# EAGLE library part LOKI_TOP_PLANK (library loki)
Top plank template for Loki. For planks that cannot have others stacked on them.
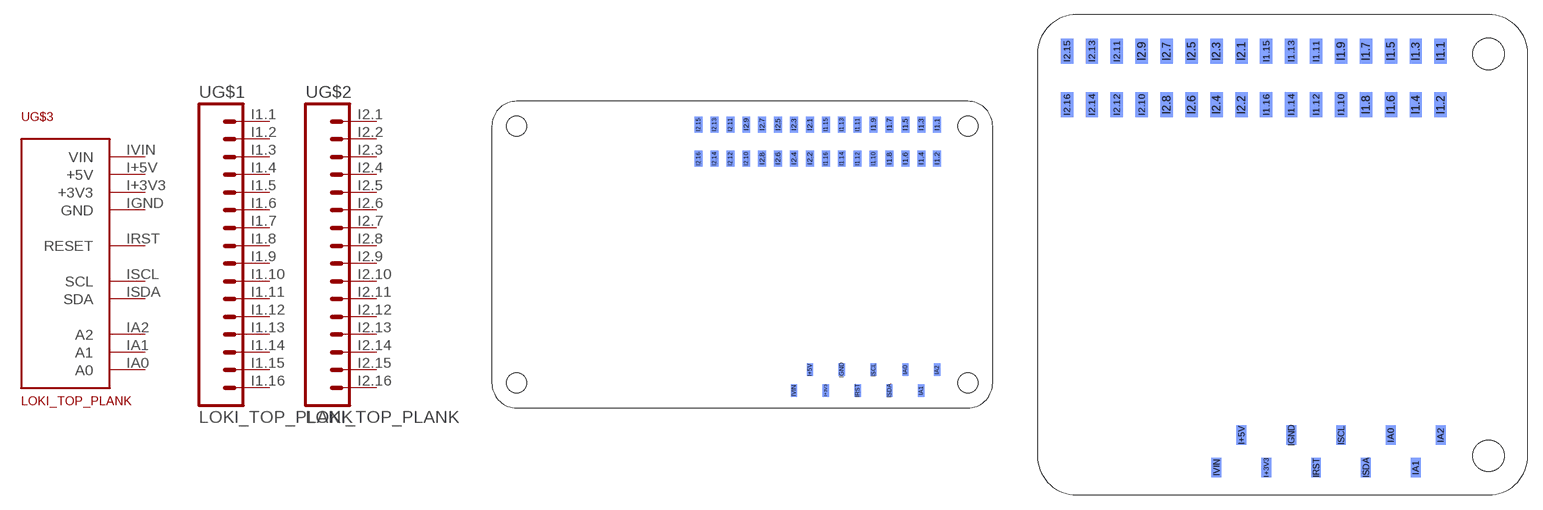
[diagram p1: symbol with the pads of TOP_PLANK_LONG; footprints TOP_PLANK_LONG, TOP_PLANK_SHORT]

Designator prefix -; gates G$1=INBANK G$2=INBANK G$3=TOP_POWERHEADER

## LOKI_TOP_PLANKLONG  [TOP_PLANK_LONG]
I1.1  G$1:1  pas
I1.2  G$1:2  pas
I1.3  G$1:3  pas
I1.4  G$1:4  pas
I1.5  G$1:5  pas
I1.6  G$1:6  pas
I1.7  G$1:7  pas
I1.8  G$1:8  pas
I1.9  G$1:9  pas
I1.10  G$1:10  pas
I1.11  G$1:11  pas
I1.12  G$1:12  pas
I1.13  G$1:13  pas
I1.14  G$1:14  pas
I1.15  G$1:15  pas
I1.16  G$1:16  pas
I2.1  G$2:1  pas
I2.2  G$2:2  pas
I2.3  G$2:3  pas
I2.4  G$2:4  pas
I2.5  G$2:5  pas
I2.6  G$2:6  pas
I2.7  G$2:7  pas
I2.8  G$2:8  pas
I2.9  G$2:9  pas
I2.10  G$2:10  pas
I2.11  G$2:11  pas
I2.12  G$2:12  pas
I2.13  G$2:13  pas
I2.14  G$2:14  pas
I2.15  G$2:15  pas
I2.16  G$2:16  pas
I+3V3  G$3:+3V3  pwr
I+5V  G$3:+5V  pwr
IA0  G$3:A0  out
IA1  G$3:A1  out
IA2  G$3:A2  out
IGND  G$3:GND  pwr
IRST  G$3:RESET  in
ISCL  G$3:SCL
ISDA  G$3:SDA
IVIN  G$3:VIN  pwr

## LOKI_TOP_PLANKSHORT  [TOP_PLANK_SHORT]
Pads as for TOP_PLANK_LONG

## LOKI_TOP_PLANKSHORT_NOHOLES  [TOP_PLANK_SHORT_NOHOLES]
Pads as for TOP_PLANK_LONG

## Footprint TOP_PLANK_LONG (pad centres in mm)
smd 1.27 x 2.54 bottom: I1.1 71.12,45.275; I1.2 71.12,39.815; I1.3 68.58,45.275; I1.4 68.58,39.815; I1.5 66.04,45.275; I1.6 66.04,39.815; I1.7 63.5,45.275; I1.8 63.5,39.815; I1.9 60.96,45.275; I1.10 60.96,39.815; I1.11 58.42,45.275; I1.12 58.42,39.815; I1.13 55.88,45.275; I1.14 55.88,39.815; I1.15 53.34,45.275; I1.16 53.34,39.815; I2.1 50.8,45.275; I2.2 50.8,39.815; I2.3 48.26,45.275; I2.4 48.26,39.815; I2.5 45.72,45.275; I2.6 45.72,39.815; I2.7 43.18,45.275; I2.8 43.18,39.815; I2.9 40.64,45.275; I2.10 40.64,39.815; I2.11 38.1,45.275; I2.12 38.1,39.815; I2.13 35.56,45.275; I2.14 35.56,39.815; I2.15 33.02,45.275; I2.16 33.02,39.815
smd 1 x 2 bottom: I+3V3 53.34,2.795; I+5V 50.8,6.095; IA0 66.04,6.095; IA1 68.58,2.795; IA2 71.12,6.095; IGND 55.88,6.095; IRST 58.42,2.795; ISCL 60.96,6.095; ISDA 63.5,2.795; IVIN 48.26,2.795
hole 3.2 at 4,4
hole 3.2 at 76,4
hole 3.2 at 76,45
hole 3.2 at 4,45

## Footprint TOP_PLANK_SHORT (pad centres in mm)
smd 1.27 x 2.54 bottom: I1.1 41.12,45.275; I1.2 41.12,39.815; I1.3 38.58,45.275; I1.4 38.58,39.815; I1.5 36.04,45.275; I1.6 36.04,39.815; I1.7 33.5,45.275; I1.8 33.5,39.815; I1.9 30.96,45.275; I1.10 30.96,39.815; I1.11 28.42,45.275; I1.12 28.42,39.815; I1.13 25.88,45.275; I1.14 25.88,39.815; I1.15 23.34,45.275; I1.16 23.34,39.815; I2.1 20.8,45.275; I2.2 20.8,39.815; I2.3 18.26,45.275; I2.4 18.26,39.815; I2.5 15.72,45.275; I2.6 15.72,39.815; I2.7 13.18,45.275; I2.8 13.18,39.815; I2.9 10.64,45.275; I2.10 10.64,39.815; I2.11 8.1,45.275; I2.12 8.1,39.815; I2.13 5.56,45.275; I2.14 5.56,39.815; I2.15 3.02,45.275; I2.16 3.02,39.815
smd 1 x 2 bottom: I+3V3 23.34,2.795; I+5V 20.8,6.095; IA0 36.04,6.095; IA1 38.58,2.795; IA2 41.12,6.095; IGND 25.88,6.095; IRST 28.42,2.795; ISCL 30.96,6.095; ISDA 33.5,2.795; IVIN 18.26,2.795
hole 3.2 at 46,4
hole 3.2 at 46,45

## Footprint TOP_PLANK_SHORT_NOHOLES (pad centres in mm)
smd 1.27 x 2.54 bottom: I1.1 41.12,45.275; I1.2 41.12,39.815; I1.3 38.58,45.275; I1.4 38.58,39.815; I1.5 36.04,45.275; I1.6 36.04,39.815; I1.7 33.5,45.275; I1.8 33.5,39.815; I1.9 30.96,45.275; I1.10 30.96,39.815; I1.11 28.42,45.275; I1.12 28.42,39.815; I1.13 25.88,45.275; I1.14 25.88,39.815; I1.15 23.34,45.275; I1.16 23.34,39.815; I2.1 20.8,45.275; I2.2 20.8,39.815; I2.3 18.26,45.275; I2.4 18.26,39.815; I2.5 15.72,45.275; I2.6 15.72,39.815; I2.7 13.18,45.275; I2.8 13.18,39.815; I2.9 10.64,45.275; I2.10 10.64,39.815; I2.11 8.1,45.275; I2.12 8.1,39.815; I2.13 5.56,45.275; I2.14 5.56,39.815; I2.15 3.02,45.275; I2.16 3.02,39.815
smd 1 x 2 bottom: I+3V3 23.34,2.795; I+5V 20.8,6.095; IA0 36.04,6.095; IA1 38.58,2.795; IA2 41.12,6.095; IGND 25.88,6.095; IRST 28.42,2.795; ISCL 30.96,6.095; ISDA 33.5,2.795; IVIN 18.26,2.795